# EAGLE library part DS01C-254-L-04BE (library Group Electornics Library v80)
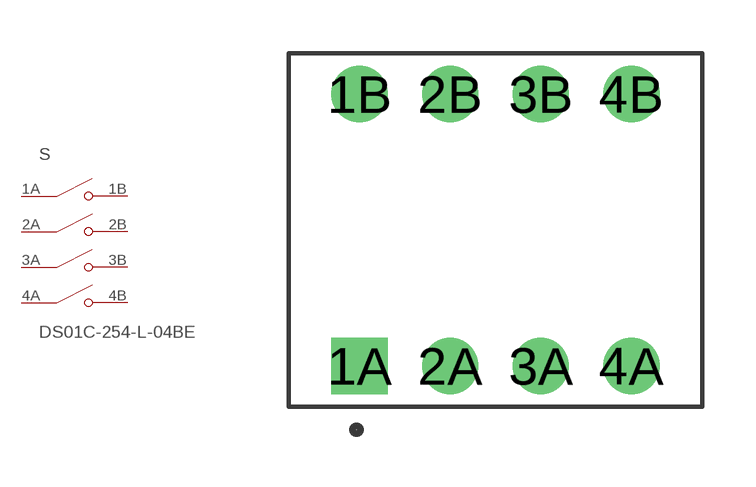
[diagram p9: symbol with the pads of SW_DS01C-254-L-04BE; footprint SW_DS01C-254-L-04BE]

Designator prefix S

## DS01C-254-L-04BE (MANUFACTURER: CUI; MAXIMUM_PACKAGE_HEIGHT: 7.0mm; PARTREV: 1.0; STANDARD: Manufacturer recommendations)  [SW_DS01C-254-L-04BE]
1A  COM1  pas
1B  NO1  pas
2A  COM2  pas
2B  NO2  pas
3A  COM3  pas
3B  NO3  pas
4A  COM4  pas
4B  NO4  pas

## Footprint SW_DS01C-254-L-04BE (pad centres in mm)
drill 1 pad 1.58 square: 1A -3.81,-3.81
drill 1 pad 1.58: 1B -3.81,3.81; 2A -1.27,-3.81; 2B -1.27,3.81; 3A 1.27,-3.81; 3B 1.27,3.81; 4A 3.81,-3.81; 4B 3.81,3.81